# Altium schematic symbol library UnitLibrary.SchLib: 1 symbol
Pins are listed as number, name and electrical type; pins without a type are passive.

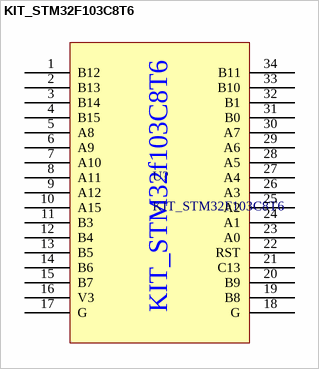
[diagram p0: symbol KIT_STM32F103C8T6]

## KIT_STM32F103C8T6
designator U?
KIT STM32F103C8T6
footprint DIP_KIT_STM32F103C8T6 - duplicate
pins: 1 B12, 2 B13, 3 B14, 4 B15, 5 A8, 6 A9, 7 A10, 8 A11, 9 A12, 10 A15, 11 B3, 12 B4, 13 B5, 14 B6, 15 B7, 16 V3, 17 G, 18 G, 19 B8, 20 B9, 21 C13, 22 RST, 23 A0, 24 A1, 25 A2, 26 A3, 27 A4, 28 A5, 29 A6, 30 A7, 31 B0, 32 B1, 33 B10, 34 B11
text: KIT_STM32f103C8T6